# Altium integrated library Linear Technology Operational Amplifiers (LT1000).IntLib: 2280 symbols (part 29 of 79)
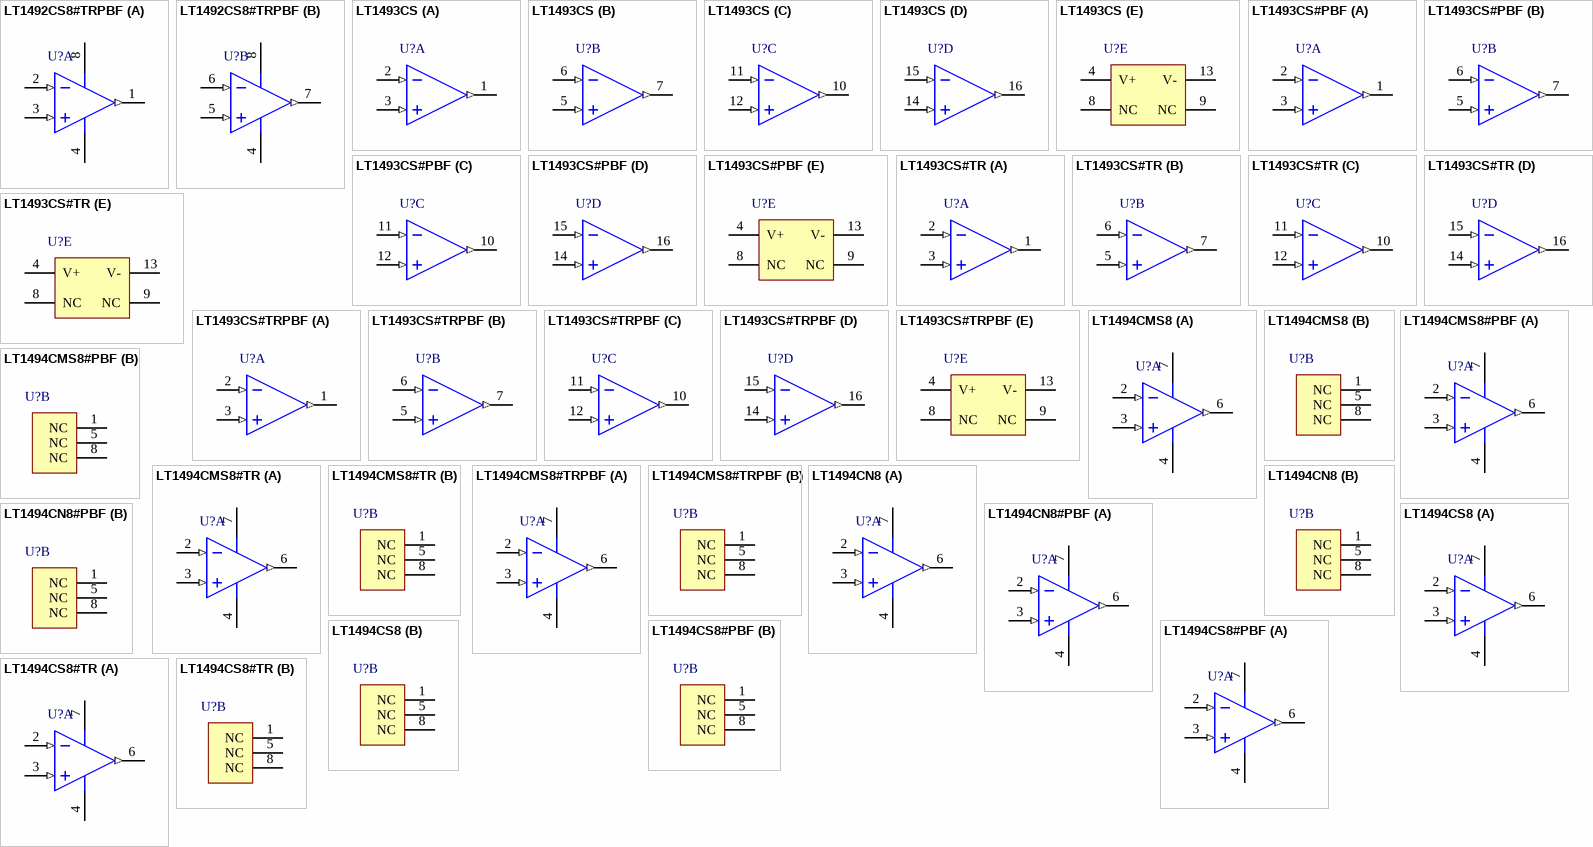
[diagram p133: symbols LT1492CS8#TRPBF to LT1494CS8#TR]

## LT1492CS8#TRPBF
designator U?
Dual Channel, Precision Single Supply Operational Amplifier, 4.5 MHz Typical GBW, 1.8 V/us Typical SR, 2.1 to 36 V, 8-Pin SOIC (S8-8), Commerical, Pb-Free, Reel; Linear Technology Part Number: LT1492; Manufacturer: Linear Technology; PartNumber: LT1492CS8#TRPBF; Channels (#): 2; GBW (MHz) Typical: 4.5; Is (mA) Typical: 0.425; SR (V/us) Typical: 1.8; Vos (mV) Typical: 0.1; Vs Max (V): 36; Vs Min (V): 2.1; PackageVersion: Rev G; PackageReference: LT-S8-8; PackageDescription: 8-Pin Plastic Small Outline, Body 4.9 x 3.9 mm, Pitch 1.27 mm; Supplier 1: Digi-Key; Supplier Part Number 1: LT1492CS8#TRPBFTR-ND; Supplier 2: Digi-Key; Supplier Part Number 2: LT1492CS8#TRPBFCT-ND; Supplier 3: Digi-Key; Supplier Part Number 3: LT1492CS8#TRPBFDKR-ND; Supplier 4: Newark; Supplier Part Number 4: 57M4490; Packing: Reel; RoHS: Pb-Free; Type: VFB; Mounting Technology: Surface Mount; ComponentLink1Description: Manufacturer URL; ComponentLink1URL: http://www.linear.com/; ComponentLink2Description: Datasheet; ComponentLink2URL: http://cds.linear.com/docs/en/datasheet/14923f.pdf; ComponentLink3Description: Package Specification; ComponentLink3URL: http://cds.linear.com/docs/en/packaging/05081610_G_SO8.pdf
footprint LT-S8-8_N (SOIC, 8-Leads, Body 4.9x3.9mm, Pitch 1.27mm, IPC Medium Density)
footprint LT-S8-8_L (SOIC, 8-Leads, Body 4.9x3.9mm, Pitch 1.27mm, IPC High Density)
footprint LT-S8-8_M (SOIC, 8-Leads, Body 4.9x3.9mm, Pitch 1.27mm, IPC Low Density)
pins on every part: 4 V- (power), 8 V+ (power)
part A pins: 1 OUT A (out), 2 -IN A (in), 3 +IN A (in)
part B pins: 5 +IN B (in), 6 -IN B (in), 7 OUT B (out)

## LT1493CS
designator U?
Quad Channel, Precision Single Supply Operational Amplifier, 4.5 MHz Typical GBW, 1.8 V/us Typical SR, 2.1 to 36 V, 16-Pin SOP (S-16), Commerical; Linear Technology Part Number: LT1493; Manufacturer: Linear Technology; PartNumber: LT1493CS; Channels (#): 4; GBW (MHz) Typical: 4.5; Is (mA) Typical: 0.425; SR (V/us) Typical: 1.8; Vos (mV) Typical: 0.1; Vs Max (V): 36; Vs Min (V): 2.1; PackageVersion: Rev G; PackageReference: LT-S-16; PackageDescription: 16-Lead Plastic Small Outline, Body 9.9 x 3.9 mm, Pitch 1.27 mm; Supplier 1: Digi-Key; Supplier Part Number 1: LT1493CS-ND; Supplier 2: Newark; Supplier Part Number 2: 57M4491; Type: VFB; Mounting Technology: Surface Mount; ComponentLink1Description: Manufacturer URL; ComponentLink1URL: http://www.linear.com/; ComponentLink2Description: Datasheet; ComponentLink2URL: http://cds.linear.com/docs/en/datasheet/14923f.pdf; ComponentLink3Description: Package Specification; ComponentLink3URL: http://cds.linear.com/docs/en/packaging/S16%2005-08-1610%20Rev%20G.pdf
footprint LT-S-16_N (SOP, 16-Leads, Body 9.9x3.9mm, Pitch 1.27mm, IPC Medium Density)
footprint LT-S-16_L (SOP, 16-Leads, Body 9.9x3.9mm, Pitch 1.27mm, IPC High Density)
footprint LT-S-16_M (SOP, 16-Leads, Body 9.9x3.9mm, Pitch 1.27mm, IPC Low Density)
part A pins: 1 OUT A (out), 2 -IN A (in), 3 +IN A (in)
part B pins: 5 +IN B (in), 6 -IN B (in), 7 OUT B (out)
part C pins: 10 OUT C (out), 11 -IN C (in), 12 +IN C (in)
part D pins: 14 +IN D (in), 15 -IN D (in), 16 OUT D (out)
part E pins: 4 V+ (power), 8 NC, 9 NC, 13 V- (power)

## LT1493CS#PBF
designator U?
Quad Channel, Precision Single Supply Operational Amplifier, 4.5 MHz Typical GBW, 1.8 V/us Typical SR, 2.1 to 36 V, 16-Pin SOP (S-16), Commerical, Pb-Free; Linear Technology Part Number: LT1493; Manufacturer: Linear Technology; PartNumber: LT1493CS#PBF; Channels (#): 4; GBW (MHz) Typical: 4.5; Is (mA) Typical: 0.425; SR (V/us) Typical: 1.8; Vos (mV) Typical: 0.1; Vs Max (V): 36; Vs Min (V): 2.1; PackageVersion: Rev G; PackageReference: LT-S-16; PackageDescription: 16-Lead Plastic Small Outline, Body 9.9 x 3.9 mm, Pitch 1.27 mm; Supplier 1: Digi-Key; Supplier Part Number 1: LT1493CS#PBF-ND; Supplier 2: Farnell; Supplier Part Number 2: 2252725; Supplier 3: Newark; Supplier Part Number 3: 57M4492; RoHS: Pb-Free; Type: VFB; Mounting Technology: Surface Mount; ComponentLink1Description: Manufacturer URL; ComponentLink1URL: http://www.linear.com/; ComponentLink2Description: Datasheet; ComponentLink2URL: http://cds.linear.com/docs/en/datasheet/14923f.pdf; ComponentLink3Description: Package Specification; ComponentLink3URL: http://cds.linear.com/docs/en/packaging/S16%2005-08-1610%20Rev%20G.pdf
footprint LT-S-16_N (SOP, 16-Leads, Body 9.9x3.9mm, Pitch 1.27mm, IPC Medium Density)
footprint LT-S-16_L (SOP, 16-Leads, Body 9.9x3.9mm, Pitch 1.27mm, IPC High Density)
footprint LT-S-16_M (SOP, 16-Leads, Body 9.9x3.9mm, Pitch 1.27mm, IPC Low Density)
part A pins: 1 OUT A (out), 2 -IN A (in), 3 +IN A (in)
part B pins: 5 +IN B (in), 6 -IN B (in), 7 OUT B (out)
part C pins: 10 OUT C (out), 11 -IN C (in), 12 +IN C (in)
part D pins: 14 +IN D (in), 15 -IN D (in), 16 OUT D (out)
part E pins: 4 V+ (power), 8 NC, 9 NC, 13 V- (power)

## LT1493CS#TR
designator U?
Quad Channel, Precision Single Supply Operational Amplifier, 4.5 MHz Typical GBW, 1.8 V/us Typical SR, 2.1 to 36 V, 16-Pin SOP (S-16), Commerical, Reel; Linear Technology Part Number: LT1493; Manufacturer: Linear Technology; PartNumber: LT1493CS#TR; Channels (#): 4; GBW (MHz) Typical: 4.5; Is (mA) Typical: 0.425; SR (V/us) Typical: 1.8; Vos (mV) Typical: 0.1; Vs Max (V): 36; Vs Min (V): 2.1; PackageVersion: Rev G; PackageReference: LT-S-16; PackageDescription: 16-Lead Plastic Small Outline, Body 9.9 x 3.9 mm, Pitch 1.27 mm; Supplier 1: Digi-Key; Supplier Part Number 1: LT1493CS#TR-ND; Packing: Reel; Type: VFB; Mounting Technology: Surface Mount; ComponentLink1Description: Manufacturer URL; ComponentLink1URL: http://www.linear.com/; ComponentLink2Description: Datasheet; ComponentLink2URL: http://cds.linear.com/docs/en/datasheet/14923f.pdf; ComponentLink3Description: Package Specification; ComponentLink3URL: http://cds.linear.com/docs/en/packaging/S16%2005-08-1610%20Rev%20G.pdf
footprint LT-S-16_N (SOP, 16-Leads, Body 9.9x3.9mm, Pitch 1.27mm, IPC Medium Density)
footprint LT-S-16_L (SOP, 16-Leads, Body 9.9x3.9mm, Pitch 1.27mm, IPC High Density)
footprint LT-S-16_M (SOP, 16-Leads, Body 9.9x3.9mm, Pitch 1.27mm, IPC Low Density)
part A pins: 1 OUT A (out), 2 -IN A (in), 3 +IN A (in)
part B pins: 5 +IN B (in), 6 -IN B (in), 7 OUT B (out)
part C pins: 10 OUT C (out), 11 -IN C (in), 12 +IN C (in)
part D pins: 14 +IN D (in), 15 -IN D (in), 16 OUT D (out)
part E pins: 4 V+ (power), 8 NC, 9 NC, 13 V- (power)

## LT1493CS#TRPBF
designator U?
Quad Channel, Precision Single Supply Operational Amplifier, 4.5 MHz Typical GBW, 1.8 V/us Typical SR, 2.1 to 36 V, 16-Pin SOP (S-16), Commerical, Pb-Free, Reel; Linear Technology Part Number: LT1493; Manufacturer: Linear Technology; PartNumber: LT1493CS#TRPBF; Channels (#): 4; GBW (MHz) Typical: 4.5; Is (mA) Typical: 0.425; SR (V/us) Typical: 1.8; Vos (mV) Typical: 0.1; Vs Max (V): 36; Vs Min (V): 2.1; PackageVersion: Rev G; PackageReference: LT-S-16; PackageDescription: 16-Lead Plastic Small Outline, Body 9.9 x 3.9 mm, Pitch 1.27 mm; Supplier 1: Digi-Key; Supplier Part Number 1: LT1493CS#TRPBF-ND; Packing: Reel; RoHS: Pb-Free; Type: VFB; Mounting Technology: Surface Mount; ComponentLink1Description: Manufacturer URL; ComponentLink1URL: http://www.linear.com/; ComponentLink2Description: Datasheet; ComponentLink2URL: http://cds.linear.com/docs/en/datasheet/14923f.pdf; ComponentLink3Description: Package Specification; ComponentLink3URL: http://cds.linear.com/docs/en/packaging/S16%2005-08-1610%20Rev%20G.pdf
footprint LT-S-16_N (SOP, 16-Leads, Body 9.9x3.9mm, Pitch 1.27mm, IPC Medium Density)
footprint LT-S-16_L (SOP, 16-Leads, Body 9.9x3.9mm, Pitch 1.27mm, IPC High Density)
footprint LT-S-16_M (SOP, 16-Leads, Body 9.9x3.9mm, Pitch 1.27mm, IPC Low Density)
part A pins: 1 OUT A (out), 2 -IN A (in), 3 +IN A (in)
part B pins: 5 +IN B (in), 6 -IN B (in), 7 OUT B (out)
part C pins: 10 OUT C (out), 11 -IN C (in), 12 +IN C (in)
part D pins: 14 +IN D (in), 15 -IN D (in), 16 OUT D (out)
part E pins: 4 V+ (power), 8 NC, 9 NC, 13 V- (power)

## LT1494CMS8
designator U?
Single Channel, Ultralow Power, Rail-to-Rail Precision Operational Amplifier, 0.0027 MHz Typical GBW, 0.001 V/us Typical SR, 2.1 to 36 V, 8-Pin SOP (MS8-8), Commerical; Linear Technology Part Number: LT1494; Manufacturer: Linear Technology; PartNumber: LT1494CMS8; Channels (#): 1; GBW (MHz) Typical: 0.0027; Is (mA) Typical: 0.001; Vos (mV) Typical: 0.15; Vs Max (V): 36; Vs Min (V): 2.1; DatasheetVersion: Rev. B; PackageVersion: Rev G; PackageReference: LT-MS8-8; PackageDescription: 8-Lead Plastic Small Outline, Body 3.9 x 4.9 mm, Pitch 1.27 mm; Supplier 1: Digi-Key; Supplier Part Number 1: LT1494CMS8-ND; SR (V/us) Typical: 0.001; Type: VFB; Mounting Technology: Surface Mount; ComponentLink1Description: Manufacturer URL; ComponentLink1URL: http://www.linear.com/; ComponentLink2Description: Datasheet; ComponentLink2URL: http://cds.linear.com/docs/en/datasheet/149456fb.pdf; ComponentLink3Description: Package Specification; ComponentLink3URL: http://cds.linear.com/docs/en/packaging/05081610_G_SO8.pdf
footprint LT-MS8-8_N (SOP, 8-Leads, Body 3x3mm, Pitch 0.65mm, IPC Medium Density)
footprint LT-MS8-8_L (SOP, 8-Leads, Body 3x3mm, Pitch 0.65mm, IPC High Density)
footprint LT-MS8-8_M (SOP, 8-Leads, Body 3x3mm, Pitch 0.65mm, IPC Low Density)
part A pins: 2 -IN (in), 3 +IN (in), 4 V- (power), 6 OUT (out), 7 V+ (power)
part B pins: 1 NC (power), 5 NC (power), 8 NC (power)

## LT1494CMS8#PBF
designator U?
Single Channel, Ultralow Power, Rail-to-Rail Precision Operational Amplifier, 0.0027 MHz Typical GBW, 0.001 V/us Typical SR, 2.1 to 36 V, 8-Pin SOP (MS8-8), Commerical, Pb-Free; Linear Technology Part Number: LT1494; Manufacturer: Linear Technology; PartNumber: LT1494CMS8#PBF; Channels (#): 1; GBW (MHz) Typical: 0.0027; Is (mA) Typical: 0.001; Vos (mV) Typical: 0.15; Vs Max (V): 36; Vs Min (V): 2.1; DatasheetVersion: Rev. B; PackageVersion: Rev G; PackageReference: LT-MS8-8; PackageDescription: 8-Lead Plastic Small Outline, Body 3.9 x 4.9 mm, Pitch 1.27 mm; Supplier 1: Digi-Key; Supplier Part Number 1: LT1494CMS8#PBF-ND; Supplier 2: Farnell; Supplier Part Number 2: 1330670; Supplier 3: Newark; Supplier Part Number 3: 57M4496; RoHS: Pb-Free; SR (V/us) Typical: 0.001; Type: VFB; Mounting Technology: Surface Mount; ComponentLink1Description: Manufacturer URL; ComponentLink1URL: http://www.linear.com/; ComponentLink2Description: Datasheet; ComponentLink2URL: http://cds.linear.com/docs/en/datasheet/149456fb.pdf; ComponentLink3Description: Package Specification; ComponentLink3URL: http://cds.linear.com/docs/en/packaging/05081610_G_SO8.pdf
footprint LT-MS8-8_N (SOP, 8-Leads, Body 3x3mm, Pitch 0.65mm, IPC Medium Density)
footprint LT-MS8-8_L (SOP, 8-Leads, Body 3x3mm, Pitch 0.65mm, IPC High Density)
footprint LT-MS8-8_M (SOP, 8-Leads, Body 3x3mm, Pitch 0.65mm, IPC Low Density)
part A pins: 2 -IN (in), 3 +IN (in), 4 V- (power), 6 OUT (out), 7 V+ (power)
part B pins: 1 NC (power), 5 NC (power), 8 NC (power)

## LT1494CMS8#TR
designator U?
Single Channel, Ultralow Power, Rail-to-Rail Precision Operational Amplifier, 0.0027 MHz Typical GBW, 0.001 V/us Typical SR, 2.1 to 36 V, 8-Pin SOP (MS8-8), Commerical, Reel; Linear Technology Part Number: LT1494; Manufacturer: Linear Technology; PartNumber: LT1494CMS8#TR; Channels (#): 1; GBW (MHz) Typical: 0.0027; Is (mA) Typical: 0.001; Vos (mV) Typical: 0.15; Vs Max (V): 36; Vs Min (V): 2.1; DatasheetVersion: Rev. B; PackageVersion: Rev G; PackageReference: LT-MS8-8; PackageDescription: 8-Lead Plastic Small Outline, Body 3.9 x 4.9 mm, Pitch 1.27 mm; Supplier 1: Digi-Key; Supplier Part Number 1: LT1494CMS8TR-ND; Packing: Reel; SR (V/us) Typical: 0.001; Type: VFB; Mounting Technology: Surface Mount; ComponentLink1Description: Manufacturer URL; ComponentLink1URL: http://www.linear.com/; ComponentLink2Description: Datasheet; ComponentLink2URL: http://cds.linear.com/docs/en/datasheet/149456fb.pdf; ComponentLink3Description: Package Specification; ComponentLink3URL: http://cds.linear.com/docs/en/packaging/05081610_G_SO8.pdf
footprint LT-MS8-8_N (SOP, 8-Leads, Body 3x3mm, Pitch 0.65mm, IPC Medium Density)
footprint LT-MS8-8_L (SOP, 8-Leads, Body 3x3mm, Pitch 0.65mm, IPC High Density)
footprint LT-MS8-8_M (SOP, 8-Leads, Body 3x3mm, Pitch 0.65mm, IPC Low Density)
part A pins: 2 -IN (in), 3 +IN (in), 4 V- (power), 6 OUT (out), 7 V+ (power)
part B pins: 1 NC (power), 5 NC (power), 8 NC (power)

## LT1494CMS8#TRPBF
designator U?
Single Channel, Ultralow Power, Rail-to-Rail Precision Operational Amplifier, 0.0027 MHz Typical GBW, 0.001 V/us Typical SR, 2.1 to 36 V, 8-Pin SOP (MS8-8), Commerical, Pb-Free, Reel; Linear Technology Part Number: LT1494; Manufacturer: Linear Technology; PartNumber: LT1494CMS8#TRPBF; Channels (#): 1; GBW (MHz) Typical: 0.0027; Is (mA) Typical: 0.001; Vos (mV) Typical: 0.15; Vs Max (V): 36; Vs Min (V): 2.1; DatasheetVersion: Rev. B; PackageVersion: Rev G; PackageReference: LT-MS8-8; PackageDescription: 8-Lead Plastic Small Outline, Body 3.9 x 4.9 mm, Pitch 1.27 mm; Supplier 1: Digi-Key; Supplier Part Number 1: LT1494CMS8#TRPBF-ND; Packing: Reel; RoHS: Pb-Free; SR (V/us) Typical: 0.001; Type: VFB; Mounting Technology: Surface Mount; ComponentLink1Description: Manufacturer URL; ComponentLink1URL: http://www.linear.com/; ComponentLink2Description: Datasheet; ComponentLink2URL: http://cds.linear.com/docs/en/datasheet/149456fb.pdf; ComponentLink3Description: Package Specification; ComponentLink3URL: http://cds.linear.com/docs/en/packaging/05081610_G_SO8.pdf
footprint LT-MS8-8_N (SOP, 8-Leads, Body 3x3mm, Pitch 0.65mm, IPC Medium Density)
footprint LT-MS8-8_L (SOP, 8-Leads, Body 3x3mm, Pitch 0.65mm, IPC High Density)
footprint LT-MS8-8_M (SOP, 8-Leads, Body 3x3mm, Pitch 0.65mm, IPC Low Density)
part A pins: 2 -IN (in), 3 +IN (in), 4 V- (power), 6 OUT (out), 7 V+ (power)
part B pins: 1 NC (power), 5 NC (power), 8 NC (power)

## LT1494CN8
designator U?
Single Channel, Ultralow Power, Rail-to-Rail Precision Operational Amplifier, 0.0027 MHz Typical GBW, 0.001 V/us Typical SR, 2.1 to 36 V, 8-Pin DIP (N8-8), Commerical; Linear Technology Part Number: LT1494; Manufacturer: Linear Technology; PartNumber: LT1494CN8; Channels (#): 1; GBW (MHz) Typical: 0.0027; Is (mA) Typical: 0.001; Vos (mV) Typical: 0.15; Vs Max (V): 36; Vs Min (V): 2.1; DatasheetVersion: Rev. B; PackageVersion: Rev I; PackageReference: LT-N8-8; PackageDescription: 8-Lead PDIP, Body 10.16 x 6.48 mm, Pitch 2.54 mm; Supplier 1: Digi-Key; Supplier Part Number 1: LT1494CN8-ND; SR (V/us) Typical: 0.001; Type: VFB; Mounting Technology: Surface Mount; ComponentLink1Description: Manufacturer URL; ComponentLink1URL: http://www.linear.com/; ComponentLink2Description: Datasheet; ComponentLink2URL: http://cds.linear.com/docs/en/datasheet/149456fb.pdf; ComponentLink3Description: Package Specification; ComponentLink3URL: http://cds.linear.com/docs/en/packaging/05081510_I_N8.pdf
footprint LT-N8-8 (DIP, 8-Leads, Body 10.16x6.48mm, Pitch 2.54mm)
part A pins: 2 -IN (in), 3 +IN (in), 4 V- (power), 6 OUT (out), 7 V+ (power)
part B pins: 1 NC (power), 5 NC (power), 8 NC (power)

## LT1494CN8#PBF
designator U?
Single Channel, Ultralow Power, Rail-to-Rail Precision Operational Amplifier, 0.0027 MHz Typical GBW, 0.001 V/us Typical SR, 2.1 to 36 V, 8-Pin DIP (N8-8), Commerical, Pb-Free; Linear Technology Part Number: LT1494; Manufacturer: Linear Technology; PartNumber: LT1494CN8#PBF; Channels (#): 1; GBW (MHz) Typical: 0.0027; Is (mA) Typical: 0.001; Vos (mV) Typical: 0.15; Vs Max (V): 36; Vs Min (V): 2.1; DatasheetVersion: Rev. B; PackageVersion: Rev I; PackageReference: LT-N8-8; PackageDescription: 8-Lead PDIP, Body 10.16 x 6.48 mm, Pitch 2.54 mm; Supplier 1: Digi-Key; Supplier Part Number 1: LT1494CN8#PBF-ND; RoHS: Pb-Free; SR (V/us) Typical: 0.001; Type: VFB; Mounting Technology: Through Hole; ComponentLink1Description: Manufacturer URL; ComponentLink1URL: http://www.linear.com/; ComponentLink2Description: Datasheet; ComponentLink2URL: http://cds.linear.com/docs/en/datasheet/149456fb.pdf; ComponentLink3Description: Package Specification; ComponentLink3URL: http://cds.linear.com/docs/en/packaging/05081510_I_N8.pdf
footprint LT-N8-8 (DIP, 8-Leads, Body 10.16x6.48mm, Pitch 2.54mm)
part A pins: 2 -IN (in), 3 +IN (in), 4 V- (power), 6 OUT (out), 7 V+ (power)
part B pins: 1 NC (power), 5 NC (power), 8 NC (power)

## LT1494CS8
designator U?
Single Channel, Ultralow Power, Rail-to-Rail Precision Operational Amplifier, 0.0027 MHz Typical GBW, 0.001 V/us Typical SR, 2.1 to 36 V, 8-Pin SOIC (S8-8), Commerical; Linear Technology Part Number: LT1494; Manufacturer: Linear Technology; PartNumber: LT1494CS8; Channels (#): 1; GBW (MHz) Typical: 0.0027; Is (mA) Typical: 0.001; Vos (mV) Typical: 0.15; Vs Max (V): 36; Vs Min (V): 2.1; DatasheetVersion: Rev. B; PackageVersion: Rev G; PackageReference: LT-S8-8; PackageDescription: 8-Pin Plastic Small Outline, Body 4.9 x 3.9 mm, Pitch 1.27 mm; Supplier 1: Digi-Key; Supplier Part Number 1: LT1494CS8-ND; SR (V/us) Typical: 0.001; Type: VFB; Mounting Technology: Surface Mount; ComponentLink1Description: Manufacturer URL; ComponentLink1URL: http://www.linear.com/; ComponentLink2Description: Datasheet; ComponentLink2URL: http://cds.linear.com/docs/en/datasheet/149456fb.pdf; ComponentLink3Description: Package Specification; ComponentLink3URL: http://cds.linear.com/docs/en/packaging/05081610_G_SO8.pdf
footprint LT-S8-8_N (SOIC, 8-Leads, Body 4.9x3.9mm, Pitch 1.27mm, IPC Medium Density)
footprint LT-S8-8_L (SOIC, 8-Leads, Body 4.9x3.9mm, Pitch 1.27mm, IPC High Density)
footprint LT-S8-8_M (SOIC, 8-Leads, Body 4.9x3.9mm, Pitch 1.27mm, IPC Low Density)
part A pins: 2 -IN (in), 3 +IN (in), 4 V- (power), 6 OUT (out), 7 V+ (power)
part B pins: 1 NC (power), 5 NC (power), 8 NC (power)

## LT1494CS8#PBF
designator U?
Single Channel, Ultralow Power, Rail-to-Rail Precision Operational Amplifier, 0.0027 MHz Typical GBW, 0.001 V/us Typical SR, 2.1 to 36 V, 8-Pin SOIC (S8-8), Commerical, Pb-Free; Linear Technology Part Number: LT1494; Manufacturer: Linear Technology; PartNumber: LT1494CS8#PBF; Channels (#): 1; GBW (MHz) Typical: 0.0027; Is (mA) Typical: 0.001; Vos (mV) Typical: 0.15; Vs Max (V): 36; Vs Min (V): 2.1; DatasheetVersion: Rev. B; PackageVersion: Rev G; PackageReference: LT-S8-8; PackageDescription: 8-Pin Plastic Small Outline, Body 4.9 x 3.9 mm, Pitch 1.27 mm; Supplier 1: Digi-Key; Supplier Part Number 1: LT1494CS8#PBF-ND; Supplier 2: Farnell; Supplier Part Number 2: 1663436; Supplier 3: Newark; Supplier Part Number 3: 57M4502; RoHS: Pb-Free; SR (V/us) Typical: 0.001; Type: VFB; Mounting Technology: Surface Mount; ComponentLink1Description: Manufacturer URL; ComponentLink1URL: http://www.linear.com/; ComponentLink2Description: Datasheet; ComponentLink2URL: http://cds.linear.com/docs/en/datasheet/149456fb.pdf; ComponentLink3Description: Package Specification; ComponentLink3URL: http://cds.linear.com/docs/en/packaging/05081610_G_SO8.pdf
footprint LT-S8-8_N (SOIC, 8-Leads, Body 4.9x3.9mm, Pitch 1.27mm, IPC Medium Density)
footprint LT-S8-8_L (SOIC, 8-Leads, Body 4.9x3.9mm, Pitch 1.27mm, IPC High Density)
footprint LT-S8-8_M (SOIC, 8-Leads, Body 4.9x3.9mm, Pitch 1.27mm, IPC Low Density)
part A pins: 2 -IN (in), 3 +IN (in), 4 V- (power), 6 OUT (out), 7 V+ (power)
part B pins: 1 NC (power), 5 NC (power), 8 NC (power)

## LT1494CS8#TR
designator U?
Single Channel, Ultralow Power, Rail-to-Rail Precision Operational Amplifier, 0.0027 MHz Typical GBW, 0.001 V/us Typical SR, 2.1 to 36 V, 8-Pin SOIC (S8-8), Commerical, Reel; Linear Technology Part Number: LT1494; Manufacturer: Linear Technology; PartNumber: LT1494CS8#TR; Channels (#): 1; GBW (MHz) Typical: 0.0027; Is (mA) Typical: 0.001; Vos (mV) Typical: 0.15; Vs Max (V): 36; Vs Min (V): 2.1; DatasheetVersion: Rev. B; PackageVersion: Rev G; PackageReference: LT-S8-8; PackageDescription: 8-Pin Plastic Small Outline, Body 4.9 x 3.9 mm, Pitch 1.27 mm; Supplier 1: Digi-Key; Supplier Part Number 1: LT1494CS8TR-ND; Packing: Reel; SR (V/us) Typical: 0.001; Type: VFB; Mounting Technology: Surface Mount; ComponentLink1Description: Manufacturer URL; ComponentLink1URL: http://www.linear.com/; ComponentLink2Description: Datasheet; ComponentLink2URL: http://cds.linear.com/docs/en/datasheet/149456fb.pdf; ComponentLink3Description: Package Specification; ComponentLink3URL: http://cds.linear.com/docs/en/packaging/05081610_G_SO8.pdf
footprint LT-S8-8_N (SOIC, 8-Leads, Body 4.9x3.9mm, Pitch 1.27mm, IPC Medium Density)
footprint LT-S8-8_L (SOIC, 8-Leads, Body 4.9x3.9mm, Pitch 1.27mm, IPC High Density)
footprint LT-S8-8_M (SOIC, 8-Leads, Body 4.9x3.9mm, Pitch 1.27mm, IPC Low Density)
part A pins: 2 -IN (in), 3 +IN (in), 4 V- (power), 6 OUT (out), 7 V+ (power)
part B pins: 1 NC (power), 5 NC (power), 8 NC (power)

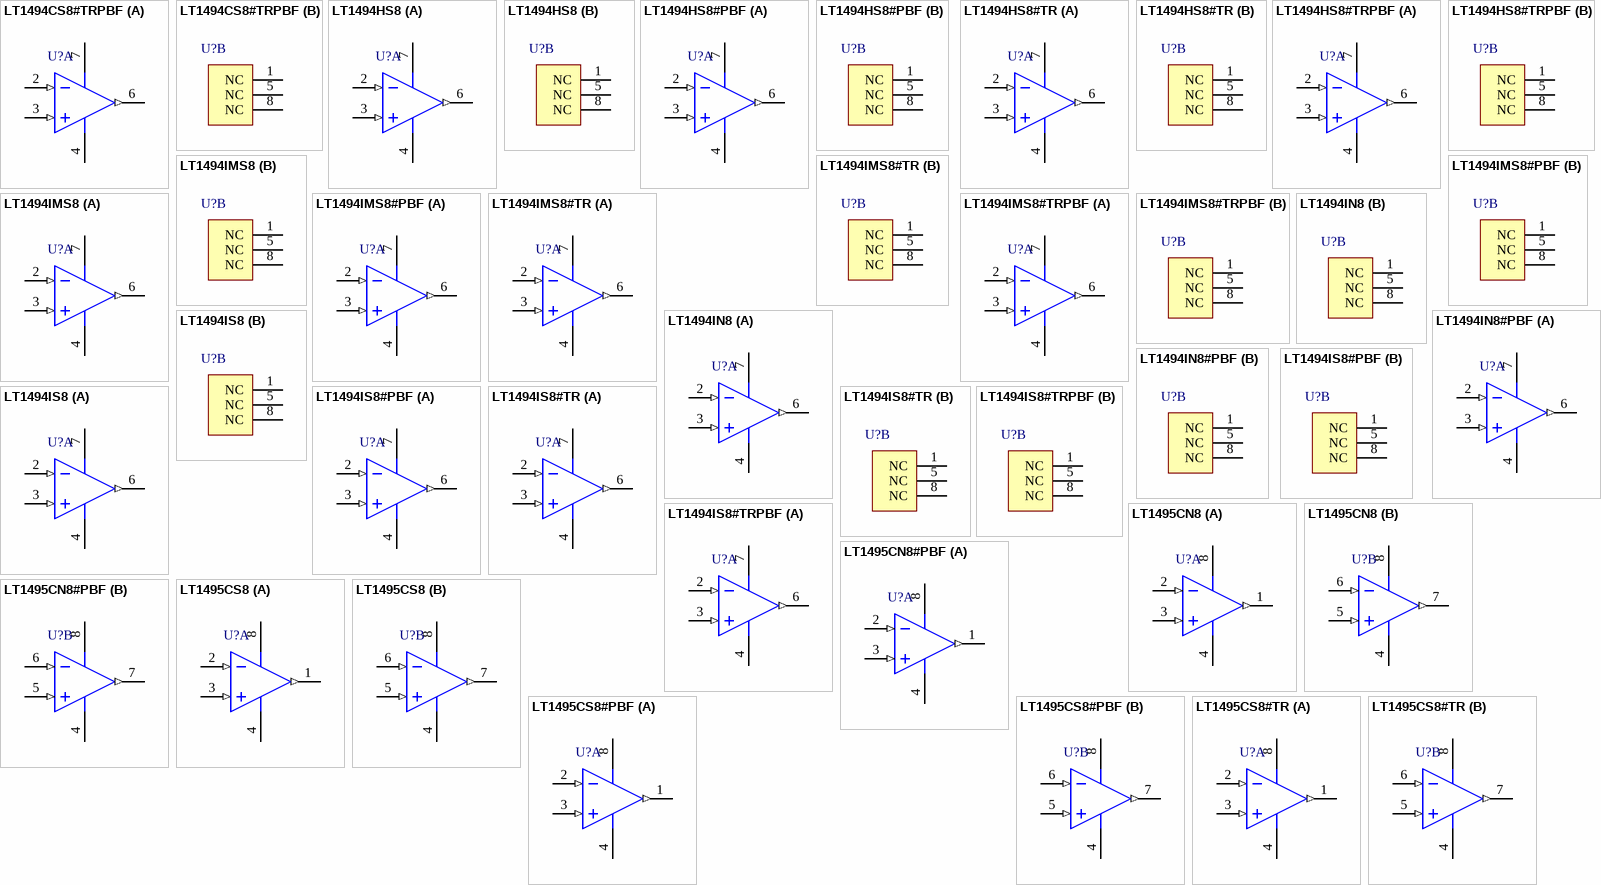
[diagram p49: symbols LT1494CS8#TRPBF to LT1495CS8#TR]

## LT1494CS8#TRPBF
designator U?
Single Channel, Ultralow Power, Rail-to-Rail Precision Operational Amplifier, 0.0027 MHz Typical GBW, 0.001 V/us Typical SR, 2.1 to 36 V, 8-Pin SOIC (S8-8), Commerical, Pb-Free, Reel; Linear Technology Part Number: LT1494; Manufacturer: Linear Technology; PartNumber: LT1494CS8#TRPBF; Channels (#): 1; GBW (MHz) Typical: 0.0027; Is (mA) Typical: 0.001; Vos (mV) Typical: 0.15; Vs Max (V): 36; Vs Min (V): 2.1; DatasheetVersion: Rev. B; PackageVersion: Rev G; PackageReference: LT-S8-8; PackageDescription: 8-Pin Plastic Small Outline, Body 4.9 x 3.9 mm, Pitch 1.27 mm; Supplier 1: Digi-Key; Supplier Part Number 1: LT1494CS8#TRPBF-ND; Packing: Reel; RoHS: Pb-Free; SR (V/us) Typical: 0.001; Type: VFB; Mounting Technology: Surface Mount; ComponentLink1Description: Manufacturer URL; ComponentLink1URL: http://www.linear.com/; ComponentLink2Description: Datasheet; ComponentLink2URL: http://cds.linear.com/docs/en/datasheet/149456fb.pdf; ComponentLink3Description: Package Specification; ComponentLink3URL: http://cds.linear.com/docs/en/packaging/05081610_G_SO8.pdf
footprint LT-S8-8_N (SOIC, 8-Leads, Body 4.9x3.9mm, Pitch 1.27mm, IPC Medium Density)
footprint LT-S8-8_L (SOIC, 8-Leads, Body 4.9x3.9mm, Pitch 1.27mm, IPC High Density)
footprint LT-S8-8_M (SOIC, 8-Leads, Body 4.9x3.9mm, Pitch 1.27mm, IPC Low Density)
part A pins: 2 -IN (in), 3 +IN (in), 4 V- (power), 6 OUT (out), 7 V+ (power)
part B pins: 1 NC (power), 5 NC (power), 8 NC (power)

## LT1494HS8
designator U?
Single Channel, Ultralow Power, Rail-to-Rail Precision Operational Amplifier, 0.0027 MHz Typical GBW, 0.001 V/us Typical SR, 2.1 to 36 V, 8-Pin SOIC (S8-8), High Temperature / Automotive; Linear Technology Part Number: LT1494; Manufacturer: Linear Technology; PartNumber: LT1494HS8; Channels (#): 1; GBW (MHz) Typical: 0.0027; Is (mA) Typical: 0.001; Vos (mV) Typical: 0.15; Vs Max (V): 36; Vs Min (V): 2.1; DatasheetVersion: Rev. B; PackageVersion: Rev G; PackageReference: LT-S8-8; PackageDescription: 8-Pin Plastic Small Outline, Body 4.9 x 3.9 mm, Pitch 1.27 mm; Supplier 1: Digi-Key; Supplier Part Number 1: LT1494HS8-ND; SR (V/us) Typical: 0.001; Type: VFB; Mounting Technology: Surface Mount; ComponentLink1Description: Manufacturer URL; ComponentLink1URL: http://www.linear.com/; ComponentLink2Description: Datasheet; ComponentLink2URL: http://cds.linear.com/docs/en/datasheet/149456fb.pdf; ComponentLink3Description: Package Specification; ComponentLink3URL: http://cds.linear.com/docs/en/packaging/05081610_G_SO8.pdf
footprint LT-S8-8_N (SOIC, 8-Leads, Body 4.9x3.9mm, Pitch 1.27mm, IPC Medium Density)
footprint LT-S8-8_L (SOIC, 8-Leads, Body 4.9x3.9mm, Pitch 1.27mm, IPC High Density)
footprint LT-S8-8_M (SOIC, 8-Leads, Body 4.9x3.9mm, Pitch 1.27mm, IPC Low Density)
part A pins: 2 -IN (in), 3 +IN (in), 4 V- (power), 6 OUT (out), 7 V+ (power)
part B pins: 1 NC (power), 5 NC (power), 8 NC (power)

## LT1494HS8#PBF
designator U?
Single Channel, Ultralow Power, Rail-to-Rail Precision Operational Amplifier, 0.0027 MHz Typical GBW, 0.001 V/us Typical SR, 2.1 to 36 V, 8-Pin SOIC (S8-8), High Temperature / Automotive, Pb-Free; Linear Technology Part Number: LT1494; Manufacturer: Linear Technology; PartNumber: LT1494HS8#PBF; Channels (#): 1; GBW (MHz) Typical: 0.0027; Is (mA) Typical: 0.001; Vos (mV) Typical: 0.15; Vs Max (V): 36; Vs Min (V): 2.1; DatasheetVersion: Rev. B; PackageVersion: Rev G; PackageReference: LT-S8-8; PackageDescription: 8-Pin Plastic Small Outline, Body 4.9 x 3.9 mm, Pitch 1.27 mm; Supplier 1: Digi-Key; Supplier Part Number 1: LT1494HS8#PBF-ND; RoHS: Pb-Free; SR (V/us) Typical: 0.001; Type: VFB; Mounting Technology: Surface Mount; ComponentLink1Description: Manufacturer URL; ComponentLink1URL: http://www.linear.com/; ComponentLink2Description: Datasheet; ComponentLink2URL: http://cds.linear.com/docs/en/datasheet/149456fb.pdf; ComponentLink3Description: Package Specification; ComponentLink3URL: http://cds.linear.com/docs/en/packaging/05081610_G_SO8.pdf
footprint LT-S8-8_N (SOIC, 8-Leads, Body 4.9x3.9mm, Pitch 1.27mm, IPC Medium Density)
footprint LT-S8-8_L (SOIC, 8-Leads, Body 4.9x3.9mm, Pitch 1.27mm, IPC High Density)
footprint LT-S8-8_M (SOIC, 8-Leads, Body 4.9x3.9mm, Pitch 1.27mm, IPC Low Density)
part A pins: 2 -IN (in), 3 +IN (in), 4 V- (power), 6 OUT (out), 7 V+ (power)
part B pins: 1 NC (power), 5 NC (power), 8 NC (power)

## LT1494HS8#TR
designator U?
Single Channel, Ultralow Power, Rail-to-Rail Precision Operational Amplifier, 0.0027 MHz Typical GBW, 0.001 V/us Typical SR, 2.1 to 36 V, 8-Pin SOIC (S8-8), High Temperature / Automotive, Reel; Linear Technology Part Number: LT1494; Manufacturer: Linear Technology; PartNumber: LT1494HS8#TR; Channels (#): 1; GBW (MHz) Typical: 0.0027; Is (mA) Typical: 0.001; Vos (mV) Typical: 0.15; Vs Max (V): 36; Vs Min (V): 2.1; DatasheetVersion: Rev. B; PackageVersion: Rev G; PackageReference: LT-S8-8; PackageDescription: 8-Pin Plastic Small Outline, Body 4.9 x 3.9 mm, Pitch 1.27 mm; Supplier 1: Digi-Key; Supplier Part Number 1: LT1494HS8TR-ND; Packing: Reel; SR (V/us) Typical: 0.001; Type: VFB; Mounting Technology: Surface Mount; ComponentLink1Description: Manufacturer URL; ComponentLink1URL: http://www.linear.com/; ComponentLink2Description: Datasheet; ComponentLink2URL: http://cds.linear.com/docs/en/datasheet/149456fb.pdf; ComponentLink3Description: Package Specification; ComponentLink3URL: http://cds.linear.com/docs/en/packaging/05081610_G_SO8.pdf
footprint LT-S8-8_N (SOIC, 8-Leads, Body 4.9x3.9mm, Pitch 1.27mm, IPC Medium Density)
footprint LT-S8-8_L (SOIC, 8-Leads, Body 4.9x3.9mm, Pitch 1.27mm, IPC High Density)
footprint LT-S8-8_M (SOIC, 8-Leads, Body 4.9x3.9mm, Pitch 1.27mm, IPC Low Density)
part A pins: 2 -IN (in), 3 +IN (in), 4 V- (power), 6 OUT (out), 7 V+ (power)
part B pins: 1 NC (power), 5 NC (power), 8 NC (power)

## LT1494HS8#TRPBF
designator U?
Single Channel, Ultralow Power, Rail-to-Rail Precision Operational Amplifier, 0.0027 MHz Typical GBW, 0.001 V/us Typical SR, 2.1 to 36 V, 8-Pin SOIC (S8-8), High Temperature / Automotive, Pb-Free, Reel; Linear Technology Part Number: LT1494; Manufacturer: Linear Technology; PartNumber: LT1494HS8#TRPBF; Channels (#): 1; GBW (MHz) Typical: 0.0027; Is (mA) Typical: 0.001; Vos (mV) Typical: 0.15; Vs Max (V): 36; Vs Min (V): 2.1; DatasheetVersion: Rev. B; PackageVersion: Rev G; PackageReference: LT-S8-8; PackageDescription: 8-Pin Plastic Small Outline, Body 4.9 x 3.9 mm, Pitch 1.27 mm; Supplier 1: Digi-Key; Supplier Part Number 1: LT1494HS8#TRPBF-ND; Packing: Reel; RoHS: Pb-Free; SR (V/us) Typical: 0.001; Type: VFB; Mounting Technology: Surface Mount; ComponentLink1Description: Manufacturer URL; ComponentLink1URL: http://www.linear.com/; ComponentLink2Description: Datasheet; ComponentLink2URL: http://cds.linear.com/docs/en/datasheet/149456fb.pdf; ComponentLink3Description: Package Specification; ComponentLink3URL: http://cds.linear.com/docs/en/packaging/05081610_G_SO8.pdf
footprint LT-S8-8_N (SOIC, 8-Leads, Body 4.9x3.9mm, Pitch 1.27mm, IPC Medium Density)
footprint LT-S8-8_L (SOIC, 8-Leads, Body 4.9x3.9mm, Pitch 1.27mm, IPC High Density)
footprint LT-S8-8_M (SOIC, 8-Leads, Body 4.9x3.9mm, Pitch 1.27mm, IPC Low Density)
part A pins: 2 -IN (in), 3 +IN (in), 4 V- (power), 6 OUT (out), 7 V+ (power)
part B pins: 1 NC (power), 5 NC (power), 8 NC (power)

## LT1494IMS8
designator U?
Single Channel, Ultralow Power, Rail-to-Rail Precision Operational Amplifier, 0.0027 MHz Typical GBW, 0.001 V/us Typical SR, 2.1 to 36 V, 8-Pin SOP (MS8-8), Industrial; Linear Technology Part Number: LT1494; Manufacturer: Linear Technology; PartNumber: LT1494IMS8; Channels (#): 1; GBW (MHz) Typical: 0.0027; Is (mA) Typical: 0.001; Vos (mV) Typical: 0.15; Vs Max (V): 36; Vs Min (V): 2.1; DatasheetVersion: Rev. B; PackageVersion: Rev G; PackageReference: LT-MS8-8; PackageDescription: 8-Lead Plastic Small Outline, Body 3.9 x 4.9 mm, Pitch 1.27 mm; Supplier 1: Digi-Key; Supplier Part Number 1: LT1494IMS8-ND; Supplier 2: Newark; Supplier Part Number 2: 57M4509; SR (V/us) Typical: 0.001; Type: VFB; Mounting Technology: Surface Mount; ComponentLink1Description: Manufacturer URL; ComponentLink1URL: http://www.linear.com/; ComponentLink2Description: Datasheet; ComponentLink2URL: http://cds.linear.com/docs/en/datasheet/149456fb.pdf; ComponentLink3Description: Package Specification; ComponentLink3URL: http://cds.linear.com/docs/en/packaging/05081610_G_SO8.pdf
footprint LT-MS8-8_N (SOP, 8-Leads, Body 3x3mm, Pitch 0.65mm, IPC Medium Density)
footprint LT-MS8-8_L (SOP, 8-Leads, Body 3x3mm, Pitch 0.65mm, IPC High Density)
footprint LT-MS8-8_M (SOP, 8-Leads, Body 3x3mm, Pitch 0.65mm, IPC Low Density)
part A pins: 2 -IN (in), 3 +IN (in), 4 V- (power), 6 OUT  (out), 7 V+ (power)
part B pins: 1 NC, 5 NC, 8 NC

## LT1494IMS8#PBF
designator U?
Single Channel, Ultralow Power, Rail-to-Rail Precision Operational Amplifier, 0.0027 MHz Typical GBW, 0.001 V/us Typical SR, 2.1 to 36 V, 8-Pin SOP (MS8-8), Industrial, Pb-Free; Linear Technology Part Number: LT1494; Manufacturer: Linear Technology; PartNumber: LT1494IMS8#PBF; Channels (#): 1; GBW (MHz) Typical: 0.0027; Is (mA) Typical: 0.001; Vos (mV) Typical: 0.15; Vs Max (V): 36; Vs Min (V): 2.1; DatasheetVersion: Rev. B; PackageVersion: Rev G; PackageReference: LT-MS8-8; PackageDescription: 8-Lead Plastic Small Outline, Body 3.9 x 4.9 mm, Pitch 1.27 mm; Supplier 1: Digi-Key; Supplier Part Number 1: LT1494IMS8#PBF-ND; Supplier 2: Newark; Supplier Part Number 2: 57M4510; RoHS: Pb-Free; SR (V/us) Typical: 0.001; Type: VFB; Mounting Technology: Surface Mount; ComponentLink1Description: Manufacturer URL; ComponentLink1URL: http://www.linear.com/; ComponentLink2Description: Datasheet; ComponentLink2URL: http://cds.linear.com/docs/en/datasheet/149456fb.pdf; ComponentLink3Description: Package Specification; ComponentLink3URL: http://cds.linear.com/docs/en/packaging/05081610_G_SO8.pdf
footprint LT-MS8-8_N (SOP, 8-Leads, Body 3x3mm, Pitch 0.65mm, IPC Medium Density)
footprint LT-MS8-8_L (SOP, 8-Leads, Body 3x3mm, Pitch 0.65mm, IPC High Density)
footprint LT-MS8-8_M (SOP, 8-Leads, Body 3x3mm, Pitch 0.65mm, IPC Low Density)
part A pins: 2 -IN (in), 3 +IN (in), 4 V- (power), 6 OUT  (out), 7 V+ (power)
part B pins: 1 NC, 5 NC, 8 NC

## LT1494IMS8#TR
designator U?
Single Channel, Ultralow Power, Rail-to-Rail Precision Operational Amplifier, 0.0027 MHz Typical GBW, 0.001 V/us Typical SR, 2.1 to 36 V, 8-Pin SOP (MS8-8), Industrial, Reel; Linear Technology Part Number: LT1494; Manufacturer: Linear Technology; PartNumber: LT1494IMS8#TR; Channels (#): 1; GBW (MHz) Typical: 0.0027; Is (mA) Typical: 0.001; Vos (mV) Typical: 0.15; Vs Max (V): 36; Vs Min (V): 2.1; DatasheetVersion: Rev. B; PackageVersion: Rev G; PackageReference: LT-MS8-8; PackageDescription: 8-Lead Plastic Small Outline, Body 3.9 x 4.9 mm, Pitch 1.27 mm; Supplier 1: Digi-Key; Supplier Part Number 1: LT1494IMS8TR-ND; Packing: Reel; SR (V/us) Typical: 0.001; Type: VFB; Mounting Technology: Surface Mount; ComponentLink1Description: Manufacturer URL; ComponentLink1URL: http://www.linear.com/; ComponentLink2Description: Datasheet; ComponentLink2URL: http://cds.linear.com/docs/en/datasheet/149456fb.pdf; ComponentLink3Description: Package Specification; ComponentLink3URL: http://cds.linear.com/docs/en/packaging/05081610_G_SO8.pdf
footprint LT-MS8-8_N (SOP, 8-Leads, Body 3x3mm, Pitch 0.65mm, IPC Medium Density)
footprint LT-MS8-8_L (SOP, 8-Leads, Body 3x3mm, Pitch 0.65mm, IPC High Density)
footprint LT-MS8-8_M (SOP, 8-Leads, Body 3x3mm, Pitch 0.65mm, IPC Low Density)
part A pins: 2 -IN (in), 3 +IN (in), 4 V- (power), 6 OUT  (out), 7 V+ (power)
part B pins: 1 NC, 5 NC, 8 NC

## LT1494IMS8#TRPBF
designator U?
Single Channel, Ultralow Power, Rail-to-Rail Precision Operational Amplifier, 0.0027 MHz Typical GBW, 0.001 V/us Typical SR, 2.1 to 36 V, 8-Pin SOP (MS8-8), Industrial, Pb-Free, Reel; Linear Technology Part Number: LT1494; Manufacturer: Linear Technology; PartNumber: LT1494IMS8#TRPBF; Channels (#): 1; GBW (MHz) Typical: 0.0027; Is (mA) Typical: 0.001; Vos (mV) Typical: 0.15; Vs Max (V): 36; Vs Min (V): 2.1; DatasheetVersion: Rev. B; PackageVersion: Rev G; PackageReference: LT-MS8-8; PackageDescription: 8-Lead Plastic Small Outline, Body 3.9 x 4.9 mm, Pitch 1.27 mm; Supplier 1: Digi-Key; Supplier Part Number 1: LT1494IMS8#TRPBF-ND; Packing: Reel; RoHS: Pb-Free; SR (V/us) Typical: 0.001; Type: VFB; Mounting Technology: Surface Mount; ComponentLink1Description: Manufacturer URL; ComponentLink1URL: http://www.linear.com/; ComponentLink2Description: Datasheet; ComponentLink2URL: http://cds.linear.com/docs/en/datasheet/149456fb.pdf; ComponentLink3Description: Package Specification; ComponentLink3URL: http://cds.linear.com/docs/en/packaging/05081610_G_SO8.pdf
footprint LT-MS8-8_N (SOP, 8-Leads, Body 3x3mm, Pitch 0.65mm, IPC Medium Density)
footprint LT-MS8-8_L (SOP, 8-Leads, Body 3x3mm, Pitch 0.65mm, IPC High Density)
footprint LT-MS8-8_M (SOP, 8-Leads, Body 3x3mm, Pitch 0.65mm, IPC Low Density)
part A pins: 2 -IN (in), 3 +IN (in), 4 V- (power), 6 OUT  (out), 7 V+ (power)
part B pins: 1 NC, 5 NC, 8 NC

## LT1494IN8
designator U?
Single Channel, Ultralow Power, Rail-to-Rail Precision Operational Amplifier, 0.0027 MHz Typical GBW, 0.001 V/us Typical SR, 2.1 to 36 V, 8-Pin DIP (N8-8), Industrial; Linear Technology Part Number: LT1494; Manufacturer: Linear Technology; PartNumber: LT1494IN8; Channels (#): 1; GBW (MHz) Typical: 0.0027; Is (mA) Typical: 0.001; Vos (mV) Typical: 0.15; Vs Max (V): 36; Vs Min (V): 2.1; DatasheetVersion: Rev. B; PackageVersion: Rev I; PackageReference: LT-N8-8; PackageDescription: 8-Lead PDIP, Body 10.16 x 6.48 mm, Pitch 2.54 mm; Supplier 1: Digi-Key; Supplier Part Number 1: LT1494IN8-ND; SR (V/us) Typical: 0.001; Type: VFB; Mounting Technology: Surface Mount; ComponentLink1Description: Manufacturer URL; ComponentLink1URL: http://www.linear.com/; ComponentLink2Description: Datasheet; ComponentLink2URL: http://cds.linear.com/docs/en/datasheet/149456fb.pdf; ComponentLink3Description: Package Specification; ComponentLink3URL: http://cds.linear.com/docs/en/packaging/05081510_I_N8.pdf
footprint LT-N8-8 (DIP, 8-Leads, Body 10.16x6.48mm, Pitch 2.54mm)
part A pins: 2 -IN (in), 3 +IN (in), 4 V- (power), 6 OUT  (out), 7 V+ (power)
part B pins: 1 NC, 5 NC, 8 NC

## LT1494IN8#PBF
designator U?
Single Channel, Ultralow Power, Rail-to-Rail Precision Operational Amplifier, 0.0027 MHz Typical GBW, 0.001 V/us Typical SR, 2.1 to 36 V, 8-Pin DIP (N8-8), Industrial, Pb-Free; Linear Technology Part Number: LT1494; Manufacturer: Linear Technology; PartNumber: LT1494IN8#PBF; Channels (#): 1; GBW (MHz) Typical: 0.0027; Is (mA) Typical: 0.001; Vos (mV) Typical: 0.15; Vs Max (V): 36; Vs Min (V): 2.1; DatasheetVersion: Rev. B; PackageVersion: Rev I; PackageReference: LT-N8-8; PackageDescription: 8-Lead PDIP, Body 10.16 x 6.48 mm, Pitch 2.54 mm; Supplier 1: Digi-Key; Supplier Part Number 1: LT1494IN8#PBF-ND; Supplier 2: Farnell; Supplier Part Number 2: 1663437; Supplier 3: Newark; Supplier Part Number 3: 57M4514; RoHS: Pb-Free; SR (V/us) Typical: 0.001; Type: VFB; Mounting Technology: Through Hole; ComponentLink1Description: Manufacturer URL; ComponentLink1URL: http://www.linear.com/; ComponentLink2Description: Datasheet; ComponentLink2URL: http://cds.linear.com/docs/en/datasheet/149456fb.pdf; ComponentLink3Description: Package Specification; ComponentLink3URL: http://cds.linear.com/docs/en/packaging/05081510_I_N8.pdf
footprint LT-N8-8 (DIP, 8-Leads, Body 10.16x6.48mm, Pitch 2.54mm)
part A pins: 2 -IN (in), 3 +IN (in), 4 V- (power), 6 OUT  (out), 7 V+ (power)
part B pins: 1 NC, 5 NC, 8 NC

## LT1494IS8
designator U?
Single Channel, Ultralow Power, Rail-to-Rail Precision Operational Amplifier, 0.0027 MHz Typical GBW, 0.001 V/us Typical SR, 2.1 to 36 V, 8-Pin SOIC (S8-8), Industrial; Linear Technology Part Number: LT1494; Manufacturer: Linear Technology; PartNumber: LT1494IS8; Channels (#): 1; GBW (MHz) Typical: 0.0027; Is (mA) Typical: 0.001; Vos (mV) Typical: 0.15; Vs Max (V): 36; Vs Min (V): 2.1; DatasheetVersion: Rev. B; PackageVersion: Rev G; PackageReference: LT-S8-8; PackageDescription: 8-Pin Plastic Small Outline, Body 4.9 x 3.9 mm, Pitch 1.27 mm; Supplier 1: Digi-Key; Supplier Part Number 1: LT1494IS8-ND; SR (V/us) Typical: 0.001; Type: VFB; Mounting Technology: Surface Mount; ComponentLink1Description: Manufacturer URL; ComponentLink1URL: http://www.linear.com/; ComponentLink2Description: Datasheet; ComponentLink2URL: http://cds.linear.com/docs/en/datasheet/149456fb.pdf; ComponentLink3Description: Package Specification; ComponentLink3URL: http://cds.linear.com/docs/en/packaging/05081610_G_SO8.pdf
footprint LT-S8-8_N (SOIC, 8-Leads, Body 4.9x3.9mm, Pitch 1.27mm, IPC Medium Density)
footprint LT-S8-8_L (SOIC, 8-Leads, Body 4.9x3.9mm, Pitch 1.27mm, IPC High Density)
footprint LT-S8-8_M (SOIC, 8-Leads, Body 4.9x3.9mm, Pitch 1.27mm, IPC Low Density)
part A pins: 2 -IN (in), 3 +IN (in), 4 V- (power), 6 OUT  (out), 7 V+ (power)
part B pins: 1 NC, 5 NC, 8 NC

## LT1494IS8#PBF
designator U?
Single Channel, Ultralow Power, Rail-to-Rail Precision Operational Amplifier, 0.0027 MHz Typical GBW, 0.001 V/us Typical SR, 2.1 to 36 V, 8-Pin SOIC (S8-8), Industrial, Pb-Free; Linear Technology Part Number: LT1494; Manufacturer: Linear Technology; PartNumber: LT1494IS8#PBF; Channels (#): 1; GBW (MHz) Typical: 0.0027; Is (mA) Typical: 0.001; Vos (mV) Typical: 0.15; Vs Max (V): 36; Vs Min (V): 2.1; DatasheetVersion: Rev. B; PackageVersion: Rev G; PackageReference: LT-S8-8; PackageDescription: 8-Pin Plastic Small Outline, Body 4.9 x 3.9 mm, Pitch 1.27 mm; Supplier 1: Digi-Key; Supplier Part Number 1: LT1494IS8#PBF-ND; Supplier 2: Farnell; Supplier Part Number 2: 1627542; Supplier 3: Newark; Supplier Part Number 3: 57M4516; RoHS: Pb-Free; SR (V/us) Typical: 0.001; Type: VFB; Mounting Technology: Surface Mount; ComponentLink1Description: Manufacturer URL; ComponentLink1URL: http://www.linear.com/; ComponentLink2Description: Datasheet; ComponentLink2URL: http://cds.linear.com/docs/en/datasheet/149456fb.pdf; ComponentLink3Description: Package Specification; ComponentLink3URL: http://cds.linear.com/docs/en/packaging/05081610_G_SO8.pdf
footprint LT-S8-8_N (SOIC, 8-Leads, Body 4.9x3.9mm, Pitch 1.27mm, IPC Medium Density)
footprint LT-S8-8_L (SOIC, 8-Leads, Body 4.9x3.9mm, Pitch 1.27mm, IPC High Density)
footprint LT-S8-8_M (SOIC, 8-Leads, Body 4.9x3.9mm, Pitch 1.27mm, IPC Low Density)
part A pins: 2 -IN (in), 3 +IN (in), 4 V- (power), 6 OUT  (out), 7 V+ (power)
part B pins: 1 NC, 5 NC, 8 NC

## LT1494IS8#TR
designator U?
Single Channel, Ultralow Power, Rail-to-Rail Precision Operational Amplifier, 0.0027 MHz Typical GBW, 0.001 V/us Typical SR, 2.1 to 36 V, 8-Pin SOIC (S8-8), Industrial, Reel; Linear Technology Part Number: LT1494; Manufacturer: Linear Technology; PartNumber: LT1494IS8#TR; Channels (#): 1; GBW (MHz) Typical: 0.0027; Is (mA) Typical: 0.001; Vos (mV) Typical: 0.15; Vs Max (V): 36; Vs Min (V): 2.1; DatasheetVersion: Rev. B; PackageVersion: Rev G; PackageReference: LT-S8-8; PackageDescription: 8-Pin Plastic Small Outline, Body 4.9 x 3.9 mm, Pitch 1.27 mm; Supplier 1: Digi-Key; Supplier Part Number 1: LT1494IS8TR-ND; Packing: Reel; SR (V/us) Typical: 0.001; Type: VFB; Mounting Technology: Surface Mount; ComponentLink1Description: Manufacturer URL; ComponentLink1URL: http://www.linear.com/; ComponentLink2Description: Datasheet; ComponentLink2URL: http://cds.linear.com/docs/en/datasheet/149456fb.pdf; ComponentLink3Description: Package Specification; ComponentLink3URL: http://cds.linear.com/docs/en/packaging/05081610_G_SO8.pdf
footprint LT-S8-8_N (SOIC, 8-Leads, Body 4.9x3.9mm, Pitch 1.27mm, IPC Medium Density)
footprint LT-S8-8_L (SOIC, 8-Leads, Body 4.9x3.9mm, Pitch 1.27mm, IPC High Density)
footprint LT-S8-8_M (SOIC, 8-Leads, Body 4.9x3.9mm, Pitch 1.27mm, IPC Low Density)
part A pins: 2 -IN (in), 3 +IN (in), 4 V- (power), 6 OUT  (out), 7 V+ (power)
part B pins: 1 NC, 5 NC, 8 NC

## LT1494IS8#TRPBF
designator U?
Single Channel, Ultralow Power, Rail-to-Rail Precision Operational Amplifier, 0.0027 MHz Typical GBW, 0.001 V/us Typical SR, 2.1 to 36 V, 8-Pin SOIC (S8-8), Industrial, Pb-Free, Reel; Linear Technology Part Number: LT1494; Manufacturer: Linear Technology; PartNumber: LT1494IS8#TRPBF; Channels (#): 1; GBW (MHz) Typical: 0.0027; Is (mA) Typical: 0.001; Vos (mV) Typical: 0.15; Vs Max (V): 36; Vs Min (V): 2.1; DatasheetVersion: Rev. B; PackageVersion: Rev G; PackageReference: LT-S8-8; PackageDescription: 8-Pin Plastic Small Outline, Body 4.9 x 3.9 mm, Pitch 1.27 mm; Supplier 1: Digi-Key; Supplier Part Number 1: LT1494IS8#TRPBF-ND; Packing: Reel; RoHS: Pb-Free; SR (V/us) Typical: 0.001; Type: VFB; Mounting Technology: Surface Mount; ComponentLink1Description: Manufacturer URL; ComponentLink1URL: http://www.linear.com/; ComponentLink2Description: Datasheet; ComponentLink2URL: http://cds.linear.com/docs/en/datasheet/149456fb.pdf; ComponentLink3Description: Package Specification; ComponentLink3URL: http://cds.linear.com/docs/en/packaging/05081610_G_SO8.pdf
footprint LT-S8-8_N (SOIC, 8-Leads, Body 4.9x3.9mm, Pitch 1.27mm, IPC Medium Density)
footprint LT-S8-8_L (SOIC, 8-Leads, Body 4.9x3.9mm, Pitch 1.27mm, IPC High Density)
footprint LT-S8-8_M (SOIC, 8-Leads, Body 4.9x3.9mm, Pitch 1.27mm, IPC Low Density)
part A pins: 2 -IN (in), 3 +IN (in), 4 V- (power), 6 OUT  (out), 7 V+ (power)
part B pins: 1 NC, 5 NC, 8 NC

## LT1495CN8
designator U?
Dual Channel, Ultralow Power, Rail-to-Rail Precision Operational Amplifier, 0.0027 MHz Typical GBW, 0.001 V/us Typical SR, 2.1 to 36 V, 8-Pin DIP (N8-8), Commerical; Linear Technology Part Number: LT1495; Manufacturer: Linear Technology; PartNumber: LT1495CN8; Channels (#): 2; GBW (MHz) Typical: 0.0027; Is (mA) Typical: 0.001; Vos (mV) Typical: 0.15; Vs Max (V): 36; Vs Min (V): 2.1; DatasheetVersion: Rev. B; PackageVersion: Rev I; PackageReference: LT-N8-8; PackageDescription: 8-Lead PDIP, Body 10.16 x 6.48 mm, Pitch 2.54 mm; Supplier 1: Digi-Key; Supplier Part Number 1: LT1495CN8-ND; SR (V/us) Typical: 0.001; Type: VFB; Mounting Technology: Surface Mount; ComponentLink1Description: Manufacturer URL; ComponentLink1URL: http://www.linear.com/; ComponentLink2Description: Datasheet; ComponentLink2URL: http://cds.linear.com/docs/en/datasheet/149456fb.pdf; ComponentLink3Description: Package Specification; ComponentLink3URL: http://cds.linear.com/docs/en/packaging/05081510_I_N8.pdf
footprint LT-N8-8 (DIP, 8-Leads, Body 10.16x6.48mm, Pitch 2.54mm)
pins on every part: 4 V- (power), 8 V+ (power)
part A pins: 1 OUT A (out), 2 -IN A (in), 3 +IN A (in)
part B pins: 5 +IN B (in), 6 -IN B (in), 7 OUT B (out)

## LT1495CN8#PBF
designator U?
Dual Channel, Ultralow Power, Rail-to-Rail Precision Operational Amplifier, 0.0027 MHz Typical GBW, 0.001 V/us Typical SR, 2.1 to 36 V, 8-Pin DIP (N8-8), Commerical, Pb-Free; Linear Technology Part Number: LT1495; Manufacturer: Linear Technology; PartNumber: LT1495CN8#PBF; Channels (#): 2; GBW (MHz) Typical: 0.0027; Is (mA) Typical: 0.001; Vos (mV) Typical: 0.15; Vs Max (V): 36; Vs Min (V): 2.1; DatasheetVersion: Rev. B; PackageVersion: Rev I; PackageReference: LT-N8-8; PackageDescription: 8-Lead PDIP, Body 10.16 x 6.48 mm, Pitch 2.54 mm; Supplier 1: Digi-Key; Supplier Part Number 1: LT1495CN8#PBF-ND; Supplier 2: Farnell; Supplier Part Number 2: 1663438; Supplier 3: Newark; Supplier Part Number 3: 57M4520; RoHS: Pb-Free; SR (V/us) Typical: 0.001; Type: VFB; Mounting Technology: Through Hole; ComponentLink1Description: Manufacturer URL; ComponentLink1URL: http://www.linear.com/; ComponentLink2Description: Datasheet; ComponentLink2URL: http://cds.linear.com/docs/en/datasheet/149456fb.pdf; ComponentLink3Description: Package Specification; ComponentLink3URL: http://cds.linear.com/docs/en/packaging/05081510_I_N8.pdf
footprint LT-N8-8 (DIP, 8-Leads, Body 10.16x6.48mm, Pitch 2.54mm)
pins on every part: 4 V- (power), 8 V+ (power)
part A pins: 1 OUT A (out), 2 -IN A (in), 3 +IN A (in)
part B pins: 5 +IN B (in), 6 -IN B (in), 7 OUT B (out)

## LT1495CS8
designator U?
Dual Channel, Ultralow Power, Rail-to-Rail Precision Operational Amplifier, 0.0027 MHz Typical GBW, 0.001 V/us Typical SR, 2.1 to 36 V, 8-Pin SOIC (S8-8), Commerical; Linear Technology Part Number: LT1495; Manufacturer: Linear Technology; PartNumber: LT1495CS8; Channels (#): 2; GBW (MHz) Typical: 0.0027; Is (mA) Typical: 0.001; Vos (mV) Typical: 0.15; Vs Max (V): 36; Vs Min (V): 2.1; DatasheetVersion: Rev. B; PackageVersion: Rev G; PackageReference: LT-S8-8; PackageDescription: 8-Pin Plastic Small Outline, Body 4.9 x 3.9 mm, Pitch 1.27 mm; Supplier 1: Digi-Key; Supplier Part Number 1: LT1495CS8-ND; Supplier 2: Newark; Supplier Part Number 2: 57M4521; SR (V/us) Typical: 0.001; Type: VFB; Mounting Technology: Surface Mount; ComponentLink1Description: Manufacturer URL; ComponentLink1URL: http://www.linear.com/; ComponentLink2Description: Datasheet; ComponentLink2URL: http://cds.linear.com/docs/en/datasheet/149456fb.pdf; ComponentLink3Description: Package Specification; ComponentLink3URL: http://cds.linear.com/docs/en/packaging/05081610_G_SO8.pdf
footprint LT-S8-8_N (SOIC, 8-Leads, Body 4.9x3.9mm, Pitch 1.27mm, IPC Medium Density)
footprint LT-S8-8_L (SOIC, 8-Leads, Body 4.9x3.9mm, Pitch 1.27mm, IPC High Density)
footprint LT-S8-8_M (SOIC, 8-Leads, Body 4.9x3.9mm, Pitch 1.27mm, IPC Low Density)
pins on every part: 4 V- (power), 8 V+ (power)
part A pins: 1 OUT A (out), 2 -IN A (in), 3 +IN A (in)
part B pins: 5 +IN B (in), 6 -IN B (in), 7 OUT B (out)

## LT1495CS8#PBF
designator U?
Dual Channel, Ultralow Power, Rail-to-Rail Precision Operational Amplifier, 0.0027 MHz Typical GBW, 0.001 V/us Typical SR, 2.1 to 36 V, 8-Pin SOIC (S8-8), Commerical, Pb-Free; Linear Technology Part Number: LT1495; Manufacturer: Linear Technology; PartNumber: LT1495CS8#PBF; Channels (#): 2; GBW (MHz) Typical: 0.0027; Is (mA) Typical: 0.001; Vos (mV) Typical: 0.15; Vs Max (V): 36; Vs Min (V): 2.1; DatasheetVersion: Rev. B; PackageVersion: Rev G; PackageReference: LT-S8-8; PackageDescription: 8-Pin Plastic Small Outline, Body 4.9 x 3.9 mm, Pitch 1.27 mm; Supplier 1: Digi-Key; Supplier Part Number 1: LT1495CS8#PBF-ND; Supplier 2: Farnell; Supplier Part Number 2: 1330671; Supplier 3: Newark; Supplier Part Number 3: 57M4522; RoHS: Pb-Free; SR (V/us) Typical: 0.001; Type: VFB; Mounting Technology: Surface Mount; ComponentLink1Description: Manufacturer URL; ComponentLink1URL: http://www.linear.com/; ComponentLink2Description: Datasheet; ComponentLink2URL: http://cds.linear.com/docs/en/datasheet/149456fb.pdf; ComponentLink3Description: Package Specification; ComponentLink3URL: http://cds.linear.com/docs/en/packaging/05081610_G_SO8.pdf
footprint LT-S8-8_N (SOIC, 8-Leads, Body 4.9x3.9mm, Pitch 1.27mm, IPC Medium Density)
footprint LT-S8-8_L (SOIC, 8-Leads, Body 4.9x3.9mm, Pitch 1.27mm, IPC High Density)
footprint LT-S8-8_M (SOIC, 8-Leads, Body 4.9x3.9mm, Pitch 1.27mm, IPC Low Density)
pins on every part: 4 V- (power), 8 V+ (power)
part A pins: 1 OUT A (out), 2 -IN A (in), 3 +IN A (in)
part B pins: 5 +IN B (in), 6 -IN B (in), 7 OUT B (out)

## LT1495CS8#TR
designator U?
Dual Channel, Ultralow Power, Rail-to-Rail Precision Operational Amplifier, 0.0027 MHz Typical GBW, 0.001 V/us Typical SR, 2.1 to 36 V, 8-Pin SOIC (S8-8), Commerical, Reel; Linear Technology Part Number: LT1495; Manufacturer: Linear Technology; PartNumber: LT1495CS8#TR; Channels (#): 2; GBW (MHz) Typical: 0.0027; Is (mA) Typical: 0.001; Vos (mV) Typical: 0.15; Vs Max (V): 36; Vs Min (V): 2.1; DatasheetVersion: Rev. B; PackageVersion: Rev G; PackageReference: LT-S8-8; PackageDescription: 8-Pin Plastic Small Outline, Body 4.9 x 3.9 mm, Pitch 1.27 mm; Supplier 1: Digi-Key; Supplier Part Number 1: LT1495CS8#TR-ND; Packing: Reel; SR (V/us) Typical: 0.001; Type: VFB; Mounting Technology: Surface Mount; ComponentLink1Description: Manufacturer URL; ComponentLink1URL: http://www.linear.com/; ComponentLink2Description: Datasheet; ComponentLink2URL: http://cds.linear.com/docs/en/datasheet/149456fb.pdf; ComponentLink3Description: Package Specification; ComponentLink3URL: http://cds.linear.com/docs/en/packaging/05081610_G_SO8.pdf
footprint LT-S8-8_N (SOIC, 8-Leads, Body 4.9x3.9mm, Pitch 1.27mm, IPC Medium Density)
footprint LT-S8-8_L (SOIC, 8-Leads, Body 4.9x3.9mm, Pitch 1.27mm, IPC High Density)
footprint LT-S8-8_M (SOIC, 8-Leads, Body 4.9x3.9mm, Pitch 1.27mm, IPC Low Density)
pins on every part: 4 V- (power), 8 V+ (power)
part A pins: 1 OUT A (out), 2 -IN A (in), 3 +IN A (in)
part B pins: 5 +IN B (in), 6 -IN B (in), 7 OUT B (out)

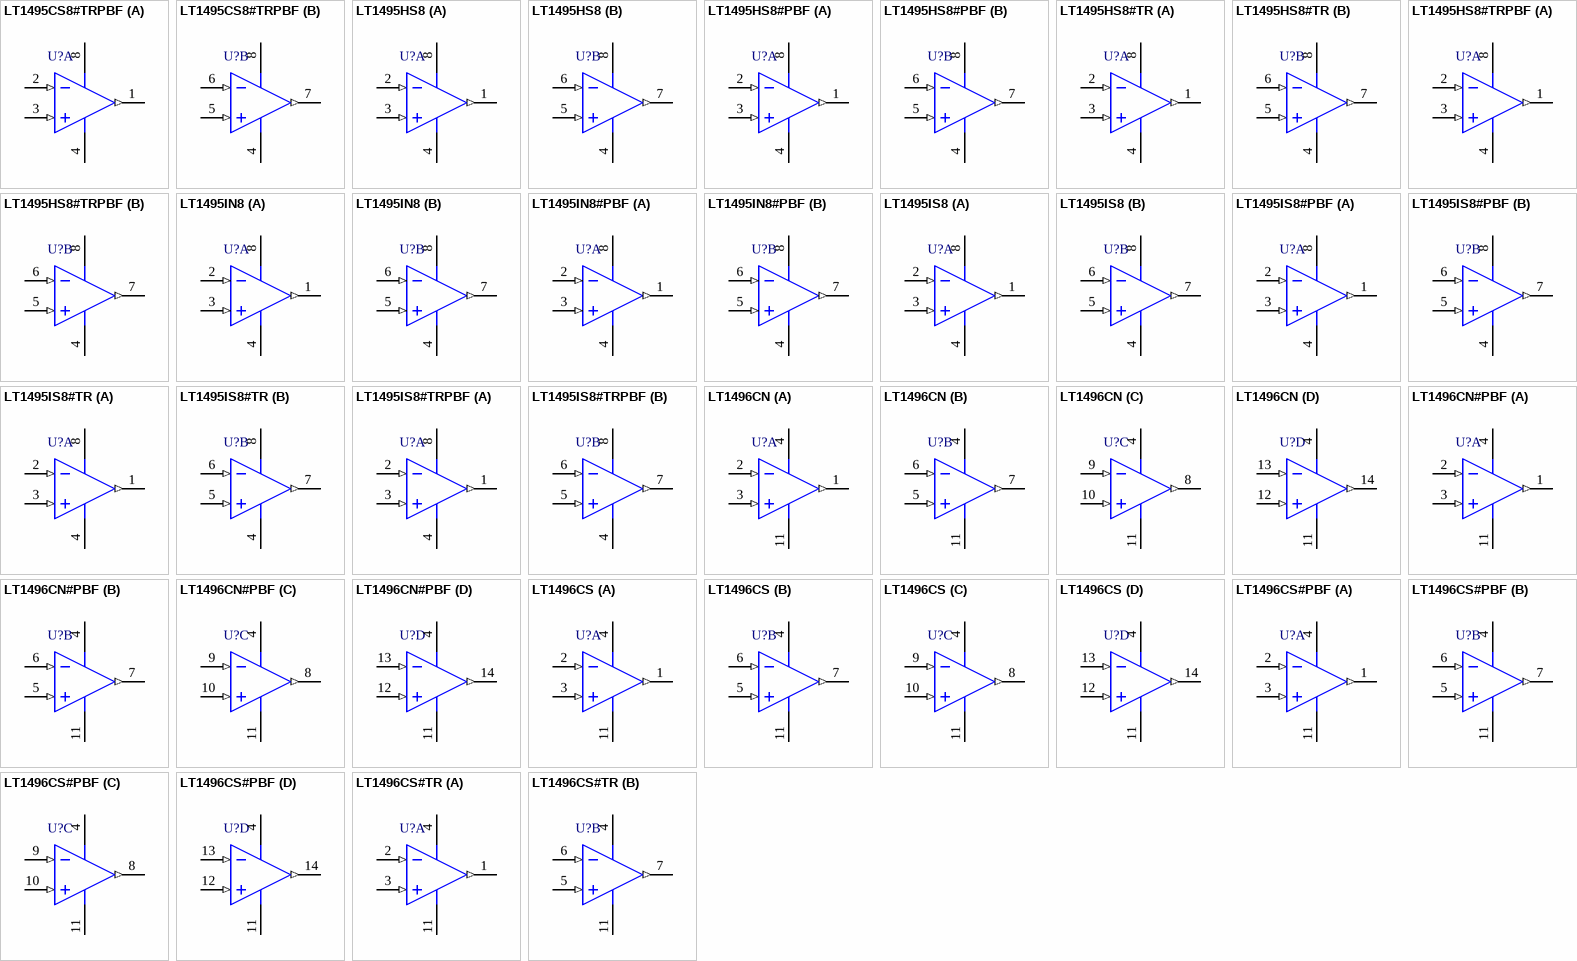
[diagram p50: symbols LT1495CS8#TRPBF to LT1496CS#TR]